# Altium schematic symbol library Schlib.SchLib: 629 symbols (part 9 of 21)
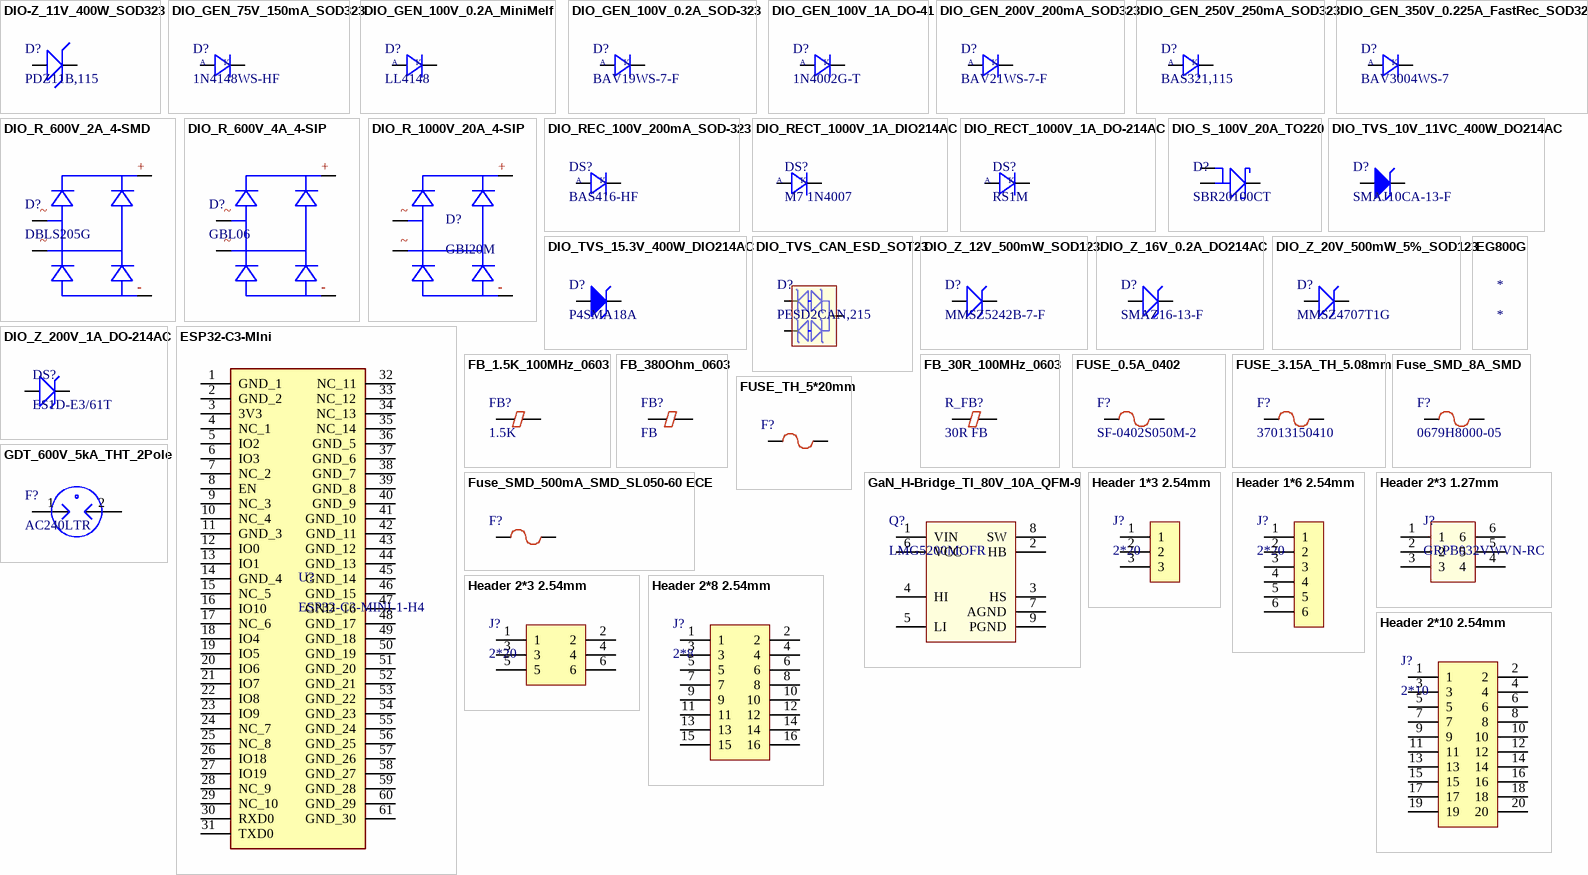
[diagram p26: symbols DIO-Z_11V_400W_SOD323 to Header 2*10 2.54mm]

## DIO_Z_16V_0.2A_DO214AC
designator D?, comment SMAZ16-13-F
Zener Diode, 16V V(Z), 5%, 1W, Silicon, Unidirectional; Manufacturer: Diodes; Package Body Material: Plastic; Dynamic Impedance-Max: 15R; Number of Elements: 1; Time @ Peak Reflow Temperature-Max (s): 40s; Test Current: 25mA; Qualification Status: Not Qualified; Supplier: Digikey; Supplier Part Number: SMAZ16-FDICT-ND; Manufacturer Part Number: SMAZ16-13-F; RoHS: Yes; Category: Zener Diodes; Stock: 376717; Pricing: 1=0.33, 10=0.236, 100=0.119, 500=0.10546, 1000=0.08208, 2000=0.07346 (USD); Pins: 2; Diode Element Material: SILICON; Package Shape: Rectangular; Terminal Finish: Tin; Min Operating Temperature: -65°C; Max Operating Temperature: 150°C; JESD-609 Code: e3; Polarity: Unidirectional; Diode Type: ZENER; JESD-30 Code: R-PDSO-C2; Moisture Sensitivity Level: 1; Package Style: SMALL OUTLINEMeter; Peak Reflow Temperature (Cel): 260°C; Max Power Dissipation: 1W; Reference Voltage-Nom: 16V; Surface Mount: Yes; Technology: ZENER; Terminal Form: C BEND; Terminal Position: DUAL; Voltage Tol-Max: 5%; RoHS Compliant: Yes; Reach SVHC Compliant: No; ComponentLink1URL: https://datasheet.ciiva.com:443/pdfs/VipMasterIC/IC/DIOD/DIOD-S-A0002832796/DIOD-S-A0002832796-1.pdf?src-supplier=IHS+Markit; ComponentLink1Description: https://datasheet.ciiva.com:443/pdfs/VipMasterIC/IC/DIOD/DIOD-S-A0002832796/DIOD-S-A0002832796-1.pdf?src-supplier=IHS+Markit; ComponentLink2URL: https://datasheet.ciiva.com/893/ds18015-893446.pdf?src-supplier=Digikey; ComponentLink2Description: https://datasheet.ciiva.com/893/ds18015-893446.pdf?src-supplier=Digikey; ComponentLink3URL: https://datasheet.ciiva.com/893/ds18015-893447.pdf?src-supplier=Digikey; ComponentLink3Description: https://datasheet.ciiva.com/893/ds18015-893447.pdf?src-supplier=Digikey; ComponentLink4URL: https://datasheet.ciiva.com/893/ds18015-893448.pdf?src-supplier=Digikey; ComponentLink4Description: https://datasheet.ciiva.com/893/ds18015-893448.pdf?src-supplier=Digikey; ComponentLink5URL: https://datasheet.ciiva.com/8345/ds18015-8345848.pdf?src-supplier=Avnet; ComponentLink5Description: https://datasheet.ciiva.com/8345/ds18015-8345848.pdf?src-supplier=Avnet
footprint DIO214AC
pins: 1, 2

## DIO_Z_20V_500mW_5%_SOD123
designator D?, comment MMSZ4707T1G
Zener Diode, 20V V(Z), 5%, 0.5W, Silicon, Unidirectional; Manufacturer: ON Semiconductor; Package Body Material: Plastic; Number of Elements: 1; Max Power Dissipation: 500mW; Test Current: 50uA; Time @ Peak Reflow Temperature-Max (s): 40s; Qualification Status: Not Qualified; Supplier: Future Electronics; Supplier Part Number: 5013838; Manufacturer Part Number: MMSZ4707T1G; RoHS: Yes; Category: Zener Diodes; Stock: 18000; Pricing: 3000=0.0203, 9000=0.0196, 15000=0.0192, 60000=0.0184, 90000=0.0178 (USD); Pins: 2; Diode Element Material: SILICON; Package Shape: Rectangular; Terminal Finish: Tin; Min Operating Temperature: -55°C; Max Operating Temperature: 150°C; JESD-609 Code: e3; Polarity: Unidirectional; Diode Type: ZENER; JESD-30 Code: R-PDSO-G2; Moisture Sensitivity Level: 1; Package Style: SMALL OUTLINEMeter; Reference Voltage-Nom: 20V; Surface Mount: Yes; Technology: ZENER; Terminal Form: Gull Wing; Terminal Position: DUAL; Voltage Tol-Max: 5%; Peak Reflow Temperature (Cel): 260°C; Reach SVHC Compliant: Yes; RoHS Compliant: Yes; ComponentLink1URL: https://datasheet.ciiva.com:443/pdfs/VipMasterIC/IC/ONSM/ONSM-S-A0003096558/ONSM-S-A0004683002-1.pdf?src-supplier=IHS+Markit; ComponentLink1Description: https://datasheet.ciiva.com:443/pdfs/VipMasterIC/IC/ONSM/ONSM-S-A0003096558/ONSM-S-A0004683002-1.pdf?src-supplier=IHS+Markit; ComponentLink2URL: https://datasheet.ciiva.com/8348/mmsz4678t1-d-8348006.pdf?src-supplier=Avnet; ComponentLink2Description: https://datasheet.ciiva.com/8348/mmsz4678t1-d-8348006.pdf?src-supplier=Avnet; ComponentLink3URL: https://datasheet.ciiva.com/900/mmsz4678t1-d-900011.pdf?src-supplier=Digikey; ComponentLink3Description: https://datasheet.ciiva.com/900/mmsz4678t1-d-900011.pdf?src-supplier=Digikey; ComponentLink4URL: https://datasheet.ciiva.com/900/mmsz4678t1-d-900012.pdf?src-supplier=Digikey; ComponentLink4Description: https://datasheet.ciiva.com/900/mmsz4678t1-d-900012.pdf?src-supplier=Digikey; ComponentLink5URL: https://datasheet.ciiva.com/900/mmsz4678t1-d-900013.pdf?src-supplier=Digikey; ComponentLink5Description: https://datasheet.ciiva.com/900/mmsz4678t1-d-900013.pdf?src-supplier=Digikey; ComponentLink6URL: https://datasheet.ciiva.com/15224/getdatasheetpartid-53216-15224523.pdf?src-supplier=Verical; ComponentLink6Description: https://datasheet.ciiva.com/15224/getdatasheetpartid-53216-15224523.pdf?src-supplier=Verical; ComponentLink7URL: https://datasheet.ciiva.com/16380/mmsz4678t1-d-16380856.pdf?src-supplier=Future+Electronics; ComponentLink7Description: https://datasheet.ciiva.com/16380/mmsz4678t1-d-16380856.pdf?src-supplier=Future+Electronics
footprint SOD-123
pins: 1, 2

## DIO_Z_200V_1A_DO-214AC
designator DS?, comment ES1D-E3/61T
VR=200V IF=1A 4pF Trr=35ns; Manufacturer: Vishay Semiconductors; Supplier 1: Digi-Key; Manufacturer Part Number: ES1D-E3/61T; RoHS: Yes; Category: Rectifier Diodes; Stock 1: 57516; Pricing 1: 1=0.4, 10=0.281, 100=0.1418, 500=0.12564 (USD); ComponentLink1URL: https://datasheet.octopart.com/ES1D-E3-61T-Vishay-datasheet-140572119.pdf?src-supplier=Arrow.cn; ComponentLink1Description: https://datasheet.octopart.com/ES1D-E3-61T-Vishay-datasheet-140572119.pdf?src-supplier=Arrow.cn; Supplier Part Number 1: ES1D-E3/61TGICT-ND
footprint DIO214AC
pins: 1, 2

## EG800G
designator *

## ESP32-C3-MIni
designator U?, comment ESP32-C3-MINI-1-H4
footprint ESP32 - C3 - Mini
pins: 1 GND_1, 2 GND_2, 3 3V3, 4 NC_1, 5 IO2, 6 IO3, 7 NC_2, 8 EN, 9 NC_3, 10 NC_4, 11 GND_3, 12 IO0, 13 IO1, 14 GND_4, 15 NC_5, 16 IO10, 17 NC_6, 18 IO4, 19 IO5, 20 IO6, 21 IO7, 22 IO8, 23 IO9, 24 NC_7, 25 NC_8, 26 IO18, 27 IO19, 28 NC_9, 29 NC_10, 30 RXD0, 31 TXD0, 32 NC_11, 33 NC_12, 34 NC_13, 35 NC_14, 36 GND_5, 37 GND_6, 38 GND_7, 39 GND_8, 40 GND_9, 41 GND_10, 42 GND_11, 43 GND_12, 44 GND_13, 45 GND_14, 46 GND_15, 47 GND_16, 48 GND_17, 49 GND_18, 50 GND_19, 51 GND_20, 52 GND_21, 53 GND_22, 54 GND_23, 55 GND_24, 56 GND_25, 57 GND_26, 58 GND_27, 59 GND_28, 60 GND_29, 61 GND_30

## FB_1.5K_100MHz_0603
designator FB?, comment 1.5K
Ferrite Chip, 1 Function(s), 0.3A, 2 Pin(s); Manufacturer: TDK; Manufacturer Part Number: MMZ1608Y152BTA00; DC Resistance-Max: 600mR; Channels: 1; Output Impedance: 1.5kR; Current Rating: 300mA; Clock Frequency: 400MHz; Min Frequency: 80MHz; Supplier: Avnet; Supplier Part Number: MMZ1608Y152BTA00; RoHS: Yes; Category: Ferrite Beads and Chips; Stock: 340000; Pricing: 4000=0.02136, 8000=0.02088, 16000=0.0204, 24000=0.01926, 32000=0.01879 (USD); Mounting Technology: Surface Mount; Terminal Finish: Copper; Material: Ferrite; Case Code: 0603; Min Operating Temperature: -55°C; Max Operating Temperature: 125°C; JESD-609 Code: e2; Filter Type: FERRITE CHIP; Packaging: Tape and Reel; Length: 1.6mm; Width: 0.8mm; Height: 0.8mm; Reach SVHC Compliant: Yes; RoHS Compliant: Yes; ComponentLink1URL: https://datasheet.ciiva.com:443/pdfs/VipMasterIC/IC/TDKC/TDKC-S-A0008032773/TDKC-S-A0008032773-1.pdf?src-supplier=IHS+Markit; ComponentLink1Description: https://datasheet.ciiva.com:443/pdfs/VipMasterIC/IC/TDKC/TDKC-S-A0008032773/TDKC-S-A0008032773-1.pdf?src-supplier=IHS+Markit; ComponentLink2URL: https://datasheet.ciiva.com/46634/beads-commercial-signal-mmz-en-46634743.pdf?src-supplier=Digikey; ComponentLink2Description: https://datasheet.ciiva.com/46634/beads-commercial-signal-mmz-en-46634743.pdf?src-supplier=Digikey; ComponentLink3URL: https://datasheet.ciiva.com/46634/beads-commercial-signal-mmz-en-46634746.pdf?src-supplier=Digikey; ComponentLink3Description: https://datasheet.ciiva.com/46634/beads-commercial-signal-mmz-en-46634746.pdf?src-supplier=Digikey; ComponentLink4URL: https://datasheet.ciiva.com/48682/beads-commercial-signal-mmz-en-48682543.pdf?src-supplier=Avnet; ComponentLink4Description: https://datasheet.ciiva.com/48682/beads-commercial-signal-mmz-en-48682543.pdf?src-supplier=Avnet
footprint RES_0603
pins: 1, 2

## FB_30R_100MHz_0603
designator R_FB?, comment 30R FB
Ferrite Beads Multi-Layer Power 30Ohm 10Ohm 100MHz 5A 0.01Ohm DCR 0603 T/R; Manufacturer: TDK; Manufacturer Part Number: MPZ1608S300ATAH0; Tolerance: 25%; Number of Lines: 1; Supplier 1: Digi-Key; RoHS: Yes; Category: Ferrite Beads and Chips; Stock 1: 499246; Pricing 1: 1=0.1, 10=0.07, 25=0.0636, 50=0.0574, 100=0.042, 250=0.03056, 500=0.02802, 1000=0.02421 (USD); Mount: Surface Mount; Case/Package: 0603; Case Code (Metric): 1608; Case Code (Imperial): 0603; Core Material: Ferrite; Weight: 7.1E-05oz; Min Operating Temperature: -55°C; Max Operating Temperature: 125°C; Packaging: Tape and Reel; Impedance: 30R; Termination: SMD/SMT; Test Frequency: 100MHz; Package Quantity: 4000; Max DC Current: 5A; Series: MPZ; Max Current Rating: 5A; Length: 1.6mm; Width: 0.8mm; Height: 0.6mm; Depth: 0.8mm; RoHS Compliant: Yes; Reach SVHC Compliant: No; Lead Free: Lead Free; ComponentLink1URL: https://datasheet.ciiva.com/46381/1795297-46381672.pdf?src-supplier=Element14; ComponentLink1Description: https://datasheet.ciiva.com/46381/1795297-46381672.pdf?src-supplier=Element14; ComponentLink2URL: https://datasheet.ciiva.com/46634/beads-commercial-power-mpz-en-46634469.pdf?src-supplier=Digi-Key; ComponentLink2Description: https://datasheet.ciiva.com/46634/beads-commercial-power-mpz-en-46634469.pdf?src-supplier=Digi-Key; ComponentLink3URL: https://datasheet.ciiva.com/46634/beads-commercial-power-mpz-en-46634463.pdf?src-supplier=Digi-Key; ComponentLink3Description: https://datasheet.ciiva.com/46634/beads-commercial-power-mpz-en-46634463.pdf?src-supplier=Digi-Key; Supplier Part Number 1: 445-MPZ1608S300ATAH0CT-ND
footprint RES_0603
pins: 1, 2

## FB_380Ohm_0603
designator FB?, comment FB
Ferrite Chip, 1 Function(s), 0.55A, 2 Pin(s); Manufacturer: Murata; Manufacturer Part Number: BLM18DN381SN1D; Supplier: Mouser; Supplier Part Number: 81-BLM18DN381SN1D; RoHS: Yes; Category: Ferrite Beads and Chips; Stock: 63; Pricing: 1=0.27, 10=0.146, 50=0.146, 100=0.128, 1000=0.077, 10000=0.065 (USD); ComponentLink1URL: https://datasheet.ciiva.com:443/pdfs/VipMasterIC/IC/MURE/MURE-S-A0008871331/MURE-S-A0008871262-1.pdf?src-supplier=IHS+Markit; ComponentLink1Description: https://datasheet.ciiva.com:443/pdfs/VipMasterIC/IC/MURE/MURE-S-A0008871331/MURE-S-A0008871262-1.pdf?src-supplier=IHS+Markit
footprint RES_0603
pins: 1, 2

## FUSE_0.5A_0402
designator F?, comment SF-0402S050M-2
Electric Fuse, Slow Blow, 0.5A, 24VDC, 35A (IR), Surface Mount; Manufacturer: Bourns; Supplier: Digikey; Supplier Part Number: SF-0402S050M-2CT-ND; Manufacturer Part Number: SF-0402S050M-2; RoHS: Yes; Category: Fuses; Stock: 4691; Pricing: 1=1.01, 5=0.84, 10=0.774, 50=0.6424, 100=0.5927, 250=0.53276, 500=0.4913, 1000=0.45293, 5000=0.37424 (USD); ComponentLink1URL: https://datasheet.ciiva.com:443/pdfs/VipMasterIC/IC/BOUR/BOUR-S-A0007718316/BOUR-S-A0007718316-1.pdf?src-supplier=IHS+Markit; ComponentLink1Description: https://datasheet.ciiva.com:443/pdfs/VipMasterIC/IC/BOUR/BOUR-S-A0007718316/BOUR-S-A0007718316-1.pdf?src-supplier=IHS+Markit; ComponentLink2URL: https://www.bourns.com/docs/Product-Datasheets/SF-0402SxxxM.pdf?src-supplier=Digikey; ComponentLink2Description: https://www.bourns.com/docs/Product-Datasheets/SF-0402SxxxM.pdf?src-supplier=Digikey
footprint RES_0402
pins: 1, 2

## FUSE_3.15A_TH_5.08mm
designator F?, comment 37013150410
Electric Fuse, Fast Blow, 3.15A, 250VAC, 35A (IR), Through Hole, TR5; Manufacturer: Littelfuse Wickmann; Joule-integral-Nom: 3.1J; Voltage Rating: 250V; Body Height: 8mm; Body Length or Diameter: 8.5mm; Reference Standard: UL; Supplier: Farnell; Supplier Part Number: 1716619; Manufacturer Part Number: 37013150410; RoHS: Yes; Category: Fuses; Stock: 884; Pricing: 1=0.924, 10=0.71, 25=0.65, 50=0.589, 100=0.544, 500=0.449, 1000=0.415 (EUR); Mounting Technology: Through Hole; Terminal Finish: Tin; Min Operating Temperature: -40°C; Max Operating Temperature: 85°C; JESD-609 Code: e3; Blow Characteristic: FAST; Circuit Protection Type: Electric Fuse; Fuse Size: TR5; Packaging: Bulk; Rated Breaking Capacity: 35A; Current Rating: 3.15A; Voltage Rating (AC): 250V; Termination: Pin Wire; Reach SVHC Compliant: Yes; RoHS Compliant: Yes; ComponentLink1URL: https://datasheet.ciiva.com:443/pdfs/VipMasterIC/IC/LFSI/LFSI-S-A0004921183/LFSI-S-A0007103660-1.pdf?src-supplier=IHS+Markit; ComponentLink1Description: https://datasheet.ciiva.com:443/pdfs/VipMasterIC/IC/LFSI/LFSI-S-A0004921183/LFSI-S-A0007103660-1.pdf?src-supplier=IHS+Markit; ComponentLink2URL: https://datasheet.ciiva.com/19467/1713387-19467274.pdf?src-supplier=Jameco; ComponentLink2Description: https://datasheet.ciiva.com/19467/1713387-19467274.pdf?src-supplier=Jameco; ComponentLink3URL: https://datasheet.ciiva.com/14153/370-series-eng-tds-14153967.pdf?src-supplier=Distrelec; ComponentLink3Description: https://datasheet.ciiva.com/14153/370-series-eng-tds-14153967.pdf?src-supplier=Distrelec; ComponentLink4URL: https://datasheet.ciiva.com/299/littelfuse-fuse-370-datasheet-pdf-299954.pdf?src-supplier=Digikey; ComponentLink4Description: https://datasheet.ciiva.com/299/littelfuse-fuse-370-datasheet-pdf-299954.pdf?src-supplier=Digikey; ComponentLink5URL: https://datasheet.ciiva.com/15186/getdatasheetpartid-72358-15186965.pdf?src-supplier=Verical; ComponentLink5Description: https://datasheet.ciiva.com/15186/getdatasheetpartid-72358-15186965.pdf?src-supplier=Verical
footprint FUSE_TH_5.08mm_H_8.5mm*8mm
pins: 1, 2

## Fuse_SMD_8A_SMD
designator F?, comment 0679H8000-05
Electric Fuse, Very Fast Blow, 8A, 350VAC, 60VDC, 50A (IR), Surface Mount, 2410; Manufacturer: Bel; Fuse Size: 2410; Rated Breaking Capacity: 100A; Voltage Rating: 60V; Trip Time or Delay: 14400s; Body Breadth: 2.54mm; Body Length or Diameter: 6.1mm; Reference Standard: UL; Supplier: Digikey; Supplier Part Number: 5923-0679H8000-05CT-ND; Manufacturer Part Number: 0679H8000-05; RoHS: Yes; Category: Fuses; Stock: 17669; Pricing: 1=0.28, 5=0.23, 10=0.213, 50=0.1772, 100=0.1639, 250=0.14764, 500=0.13642, 1000=0.126 (USD); Terminal Finish: Silver; Min Operating Temperature: -55°C; Max Operating Temperature: 125°C; JESD-609 Code: e4; Blow Characteristic: VERY FAST; Circuit Protection Type: Electric Fuse; Packaging: Tape and Reel; Current Rating: 8A; Body Height: 2.54mm; Reach SVHC Compliant: No; RoHS Compliant: Yes; ComponentLink1URL: https://datasheet.ciiva.com:443/pdfs/VipMasterIC/IC/BELF/BELF-S-A0002918427/BELF-S-A0002918427-1.pdf?src-supplier=IHS+Markit; ComponentLink1Description: https://datasheet.ciiva.com:443/pdfs/VipMasterIC/IC/BELF/BELF-S-A0002918427/BELF-S-A0002918427-1.pdf?src-supplier=IHS+Markit; ComponentLink2URL: https://www.belfuse.com/resources/CircuitProtection/datasheets/0679H%20Jan%202017.pdf?src-supplier=Digikey; ComponentLink2Description: https://www.belfuse.com/resources/CircuitProtection/datasheets/0679H%20Jan%202017.pdf?src-supplier=Digikey; ComponentLink3URL: https://datasheet.octopart.com/0679H8000-05-Bel-Fuse-datasheet-154833960.pdf?src-supplier=Master+Electronics; ComponentLink3Description: https://datasheet.octopart.com/0679H8000-05-Bel-Fuse-datasheet-154833960.pdf?src-supplier=Master+Electronics
footprint FUSE_6.1*2.54*2.79 (0.240" L x 0.100" W x 0.110" H (6.10mm x 2.54mm x 2.79mm))
pins: 1, 2

## Fuse_SMD_500mA_SMD_SL050-60 ECE
designator F?  (value not drawn)
Fuse: PTC polymer; 500mA; 2920
footprint SL050
pins: 1, 2

## FUSE_TH_5*20mm
designator F?
footprint LIttlefuse_01110501Z_TH_5*20mm Holder
pins: 1, 2

## GaN_H-Bridge_TI_80V_10A_QFM-9
designator Q?, comment LMG5200MOFR
Analog Circuit, 1 Func, 1 Channel; Manufacturer: Texas Instruments; Channels: 1; Max Supply Voltage: 5.25V; Min Supply Voltage: 4.75V; Nominal Supply Voltage: 5V; Supplier: Mouser; Supplier Part Number: 595-LMG5200MOFR; Manufacturer Part Number: LMG5200MOFR; RoHS: Yes; Category: Integrated Circuits (ICs); Stock: 2312; Pricing: 1=12.66, 10=9.95, 50=9.28, 100=8.53, 1000=7.68, 10000=7.22 (USD); Case/Package: BCC; Pins: 9; Package Shape: Rectangular; Min Operating Temperature: -40°C; Max Operating Temperature: 125°C; Throw Configuration: ANALOG CIRCUIT; Moisture Sensitivity Level: 3; Package Style: CHIP CARRIERMeter; Peak Reflow Temperature (Cel): 260°C; Surface Mount: Yes; Terminal Form: BUTT; Terminal Position: BOTTOM; Length: 8mm; Width: 6mm; Height - Seated (Max): 2mm; Temperature Grade: AUTOMOTIVE; Reach SVHC Compliant: Yes; RoHS Compliant: Yes; ComponentLink1URL: https://www.ti.com:443/lit/ds/symlink/lmg5200.pdf?src-supplier=IHS+Markit; ComponentLink1Description: https://www.ti.com:443/lit/ds/symlink/lmg5200.pdf?src-supplier=IHS+Markit; ComponentLink2URL: http://www.ti.com/lit/pdf/slyb194?src-supplier=Digikey; ComponentLink2Description: http://www.ti.com/lit/pdf/slyb194?src-supplier=Digikey; ComponentLink3URL: http://www.ti.com/lit/ds/symlink/lmg5200.pdf?src-supplier=Digikey; ComponentLink3Description: http://www.ti.com/lit/ds/symlink/lmg5200.pdf?src-supplier=Digikey; ComponentLink4URL: http://www.ti.com/general/docs/suppproductinfo.tsp?distId=10&amp;gotoUrl=http%3A%2F%2Fwww.ti.com%2Flit%2Fgpn%2Flmg5200&src-supplier=Digikey; ComponentLink4Description: http://www.ti.com/general/docs/suppproductinfo.tsp?distId=10&amp;gotoUrl=http%3A%2F%2Fwww.ti.com%2Flit%2Fgpn%2Flmg5200&src-supplier=Digikey
footprint LMG5200 - QFM9 (LMG5200 - QFM9 GaN 6.00mm X 8.00 mm)
pins: 1 VIN, 2 HB, 3 HS, 4 HI, 5 LI, 6 VCC, 7 AGND, 8 SW, 9 PGND

## GDT_600V_5kA_THT_2Pole
designator F?, comment AC240LTR
Surge Protection Circuit, CDSS2; Manufacturer: Littelfuse; Package Body Material: Metal; Channels: 1; Surface Mount: No; Time @ Peak Reflow Temperature-Max (s): 30s; Qualification Status: Not Qualified; Supplier: Rs; Supplier Part Number: 7606703; Manufacturer Part Number: AC240LTR; RoHS: Yes; Category: Circuit Protection; Stock: 105; Pricing: 5=2.972, 50=2.796, 100=2.572, 250=2.408 (EUR); Pins: 2; Package Shape: Round; Min Operating Temperature: -40°C; Max Operating Temperature: 90°C; Package Style: SPECIAL SHAPEMeter; Peak Reflow Temperature (Cel): 260°C; Telecom IC Type: SURGE PROTECTION CIRCUIT; Terminal Form: Wire; Terminal Position: DUAL; Temperature Grade: INDUSTRIAL; Reach SVHC Compliant: Yes; RoHS Compliant: Yes; ComponentLink1URL: https://datasheet.ciiva.com:443/pdfs/VipMasterIC/IC/LFSI/LFSI-S-A0004250961/LFSI-S-A0004250961-1.pdf?src-supplier=IHS+Markit; ComponentLink1Description: https://datasheet.ciiva.com:443/pdfs/VipMasterIC/IC/LFSI/LFSI-S-A0004250961/LFSI-S-A0004250961-1.pdf?src-supplier=IHS+Markit; ComponentLink2URL: https://datasheet.ciiva.com/14184/ac-cg3-series-eng-tds-14184336.pdf?src-supplier=Distrelec; ComponentLink2Description: https://datasheet.ciiva.com/14184/ac-cg3-series-eng-tds-14184336.pdf?src-supplier=Distrelec; ComponentLink3URL: https://datasheet.ciiva.com/25606/0900766b81123301-25606537.pdf?src-supplier=Rs; ComponentLink3Description: https://datasheet.ciiva.com/25606/0900766b81123301-25606537.pdf?src-supplier=Rs; ComponentLink4URL: https://datasheet.ciiva.com/323/littelfuse-gdt-ac-cg3-series-323282.pdf?src-supplier=Digikey; ComponentLink4Description: https://datasheet.ciiva.com/323/littelfuse-gdt-ac-cg3-series-323282.pdf?src-supplier=Digikey
footprint LittleFuse_AC240LTR
pins: 1, 2

## Header 1*3 2.54mm
designator J?, comment 2*20  (net tie, no BOM)
footprint Header 1*3
pins: 1, 2, 3

## Header 1*6 2.54mm
designator J?, comment 2*20  (net tie, no BOM)
footprint Header 1*6
pins: 1, 2, 3, 4, 5, 6

## Header 2*3 1.27mm
designator J?, comment GRPB032VWVN-RC
Board Connector, 6 Contact(s), 2 Row(s), Male, Straight, 0.05 inch Pitch, Solder Terminal; Manufacturer: Sullins; Manufacturer Series: GRP; Contact Pattern: RECTANGULAR; Contact Style: SQ PIN-SKT; Number Of Connectors: 1; Number Of PCB Rows: 2; Rated Current (Signal): 1A; Number of Contacts: 6; Body Breadth: 0.134inch; Body Depth: 0.039inch; Body Length: 0.15inch; PCB Contact Row Spacing: 1.27mm; Reference Standard: UL; Reliability: COMMERCIAL; Supplier: Digikey; Supplier Part Number: S9015E-03-ND; Manufacturer Part Number: GRPB032VWVN-RC; RoHS: Yes; Category: Connectors; Stock: 31118; Pricing: 1=0.57, 10=0.437, 100=0.3344, 500=0.27948, 1000=0.25933, 5000=0.21949, 10000=0.2158 (USD); Mounting Technology: Board; Contact Material: Brass; Contact Finish - Mating: AU; Insulation Material: Nylon; Min Operating Temperature: -40°C; Max Operating Temperature: 105°C; Connector Type: BOARD CONNECTOR; Contact Gender: Male; Mounting Style: STRAIGHT; Number of Rows Loaded: 2; PCB Contact Pattern: RECTANGULAR; Termination: Solder; Mating Contact Pitch: 0.05inch; Mating Contact Row Spacing: 0.05inch; Terminal Length: 0.091inch; Terminal Pitch: 1.27mm; Reach SVHC Compliant: Yes; RoHS Compliant: Yes; ComponentLink1URL: https://datasheet.ciiva.com:443/pdfs/VipMasterIC/IC/SUCS/SUCSS00161/SUCSS00161-1.pdf?src-supplier=IHS+Markit; ComponentLink1Description: https://datasheet.ciiva.com:443/pdfs/VipMasterIC/IC/SUCS/SUCSS00161/SUCSS00161-1.pdf?src-supplier=IHS+Markit; ComponentLink2URL: https://datasheet.ciiva.com/726/grpb-2vwvn-rc10954-c-726663.pdf?src-supplier=Digikey; ComponentLink2Description: https://datasheet.ciiva.com/726/grpb-2vwvn-rc10954-c-726663.pdf?src-supplier=Digikey
footprint Header 2*3 1.27mm
pins: 1, 2, 3, 4, 5, 6

## Header 2*3 2.54mm
designator J?, comment 2*20  (net tie, no BOM)
footprint Header 2*3
pins: 1, 2, 3, 4, 5, 6

## Header 2*8 2.54mm
designator J?, comment 2*8
footprint Header 2*8 - 16
pins: 1, 2, 3, 4, 5, 6, 7, 8, 9, 10, 11, 12, 13, 14, 15, 16

## Header 2*10 2.54mm
designator J?, comment 2*10  (net tie, no BOM)
footprint Header 2*10 - 20
pins: 1, 2, 3, 4, 5, 6, 7, 8, 9, 10, 11, 12, 13, 14, 15, 16, 17, 18, 19, 20

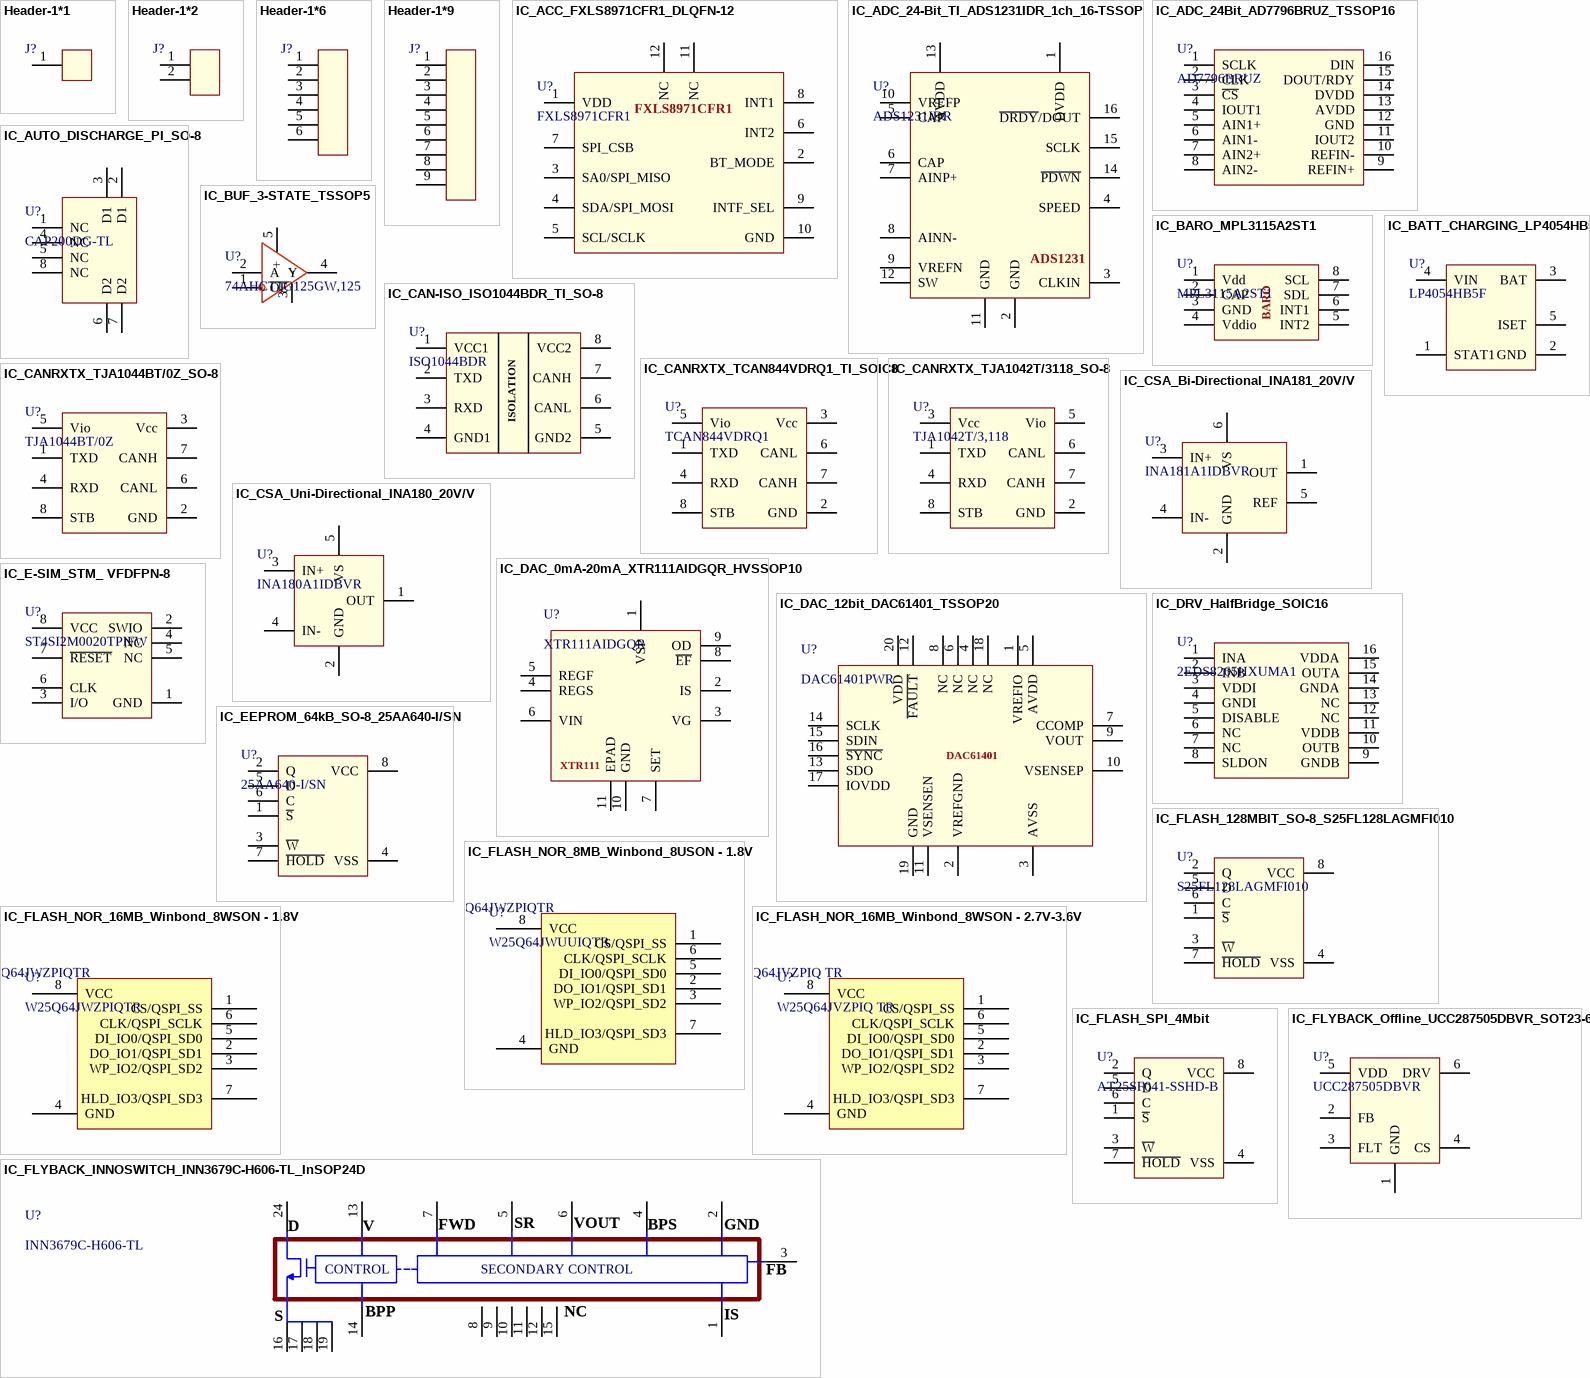
[diagram p6: symbols Header-1*1 to IC_FLYBACK_Offline_UCC287505DBVR_SOT23-6]

## Header-1*1
designator J?  (net tie, no BOM)
footprint Header 1*1 (Footprint not found)
pins: 1

## Header-1*2
designator J?  (net tie, no BOM)
footprint Header 1*2
pins: 1, 2

## Header-1*6
designator J?  (net tie, no BOM)
footprint Header 1*6 - duplicate
pins: 1, 2, 3, 4, 5, 6

## Header-1*9
designator J?  (net tie, no BOM)
footprint Header 1*9
pins: 1, 2, 3, 4, 5, 6, 7, 8, 9

## IC_ACC_FXLS8971CFR1_DLQFN-12
designator U?, comment FXLS8971CFR1
Accelerometer X, Y, Z Axis ±2g, 4g, 8g, 16g 1.6kHz 12-DLQFN (3x3); Manufacturer: NXP Semiconductors; Supplier: Avnet; Supplier Part Number: FXLS8971CFR1; Manufacturer Part Number: FXLS8971CFR1; RoHS: No; Category: LDO; Stock: 2500; Pricing: 1250=1.51782, 2500=1.51008, 5000=1.50234, 7500=1.49459, 10000=1.2696 (USD)
footprint DLQFN-12 (SOT2197-1(SC))
pins: 1 VDD, 2 BT_MODE, 3 SA0/SPI_MISO, 4 SDA/SPI_MOSI, 5 SCL/SCLK, 6 INT2, 7 SPI_CSB, 8 INT1, 9 INTF_SEL, 10 GND, 11 NC, 12 NC

## IC_ADC_24-Bit_TI_ADS1231IDR_1ch_16-TSSOP
designator U?, comment ADS1231IDR
ADC, Delta-Sigma, 24-Bit, 1 Func, 1 Channel, Serial Access, PDSO16; Manufacturer: Texas Instruments; Package Body Material: Plastic; Max Input Voltage (AC): 3.8V; Min Input Voltage (AC): 1.5V; Number of Analog In Channels: 1; Number of Bits: 24; Output Bit Code: 2''S COMPLEMENT BINARY; Package Equivalence Code: SOP16,.25; Power Supplies: 5V; Sample Rate (Hz): 80Hz; Qualification Status: Not Qualified; Supplier: Mouser; Supplier Part Number: 595-ADS1231IDR; Manufacturer Part Number: ADS1231IDR; RoHS: Yes; Category: Analog to Digital Converters (ADCs); Stock: 11675; Pricing: 1=5.81, 10=4.12, 50=4.12, 100=3.74, 1000=3.1, 10000=2.95 (USD); Case/Package: SOP; Pins: 16; Package Shape: Rectangular; Terminal Finish: Nickel; Min Operating Temperature: -40°C; Max Operating Temperature: 85°C; JESD-609 Code: e4; Output Format: Serial; Converter Type: DELTA-SIGMA; JESD-30 Code: R-PDSO-G16; Moisture Sensitivity Level: 2; Channels: 1; Package Style: SMALL OUTLINEMeter; Peak Reflow Temperature (Cel): 260°C; Nominal Supply Voltage: 5V; Surface Mount: Yes; Terminal Form: Gull Wing; Terminal Position: DUAL; Length: 9.9mm; Width: 3.9mm; Height - Seated (Max): 1.75mm; Terminal Pitch: 1.27mm; Temperature Grade: INDUSTRIAL; Reach SVHC Compliant: Yes; RoHS Compliant: Yes; ComponentLink1URL: https://www.ti.com:443/lit/ds/symlink/ads1231.pdf?src-supplier=IHS+Markit; ComponentLink1Description: https://www.ti.com:443/lit/ds/symlink/ads1231.pdf?src-supplier=IHS+Markit; ComponentLink2URL: https://datasheet.ciiva.com/1304/ads1231-1304621.pdf?src-supplier=Digikey; ComponentLink2Description: https://datasheet.ciiva.com/1304/ads1231-1304621.pdf?src-supplier=Digikey
footprint TSSOP16
pins: 1 DVDD, 2 GND, 3 CLKIN, 4 SPEED, 5 CAP, 6 CAP, 7 AINP+, 8 AINN-, 9 VREFN, 10 VREFP, 11 GND, 12 SW, 13 AVDD, 14 ~{PDWN}, 15 SCLK, 16 ~{DRDY}/DOUT
text: ADS1231

## IC_ADC_24Bit_AD7796BRUZ_TSSOP16
designator U?, comment AD7796BRUZ
ADC, Delta-Sigma, 16-Bit, 1 Func, 1 Channel, Serial Access, PDSO16; Manufacturer: Analog Devices; Package Body Material: Plastic; Max Input Voltage (AC): 4.15V; Min Input Voltage (AC): 300mV; Number of Analog In Channels: 1; Number of Bits: 16; Output Bit Code: OFFSET BINARY; Package Equivalence Code: TSSOP16,.25; Power Supplies: 3/5V; Nominal Supply Voltage: 3V; Time @ Peak Reflow Temperature-Max (s): 30s; Qualification Status: Not Qualified; Supplier: Mouser; Supplier Part Number: 584-AD7796BRUZ; Manufacturer Part Number: AD7796BRUZ; RoHS: Yes; Category: Analog to Digital Converters (ADCs); Stock: 5085; Pricing: 1=9.99, 10=6.79, 50=5.52, 100=4.71, 1000=4.7, 10000=4.57 (USD); Case/Package: TSSOP; Pins: 16; Package Shape: Rectangular; Terminal Finish: Tin; Min Operating Temperature: -40°C; Max Operating Temperature: 85°C; JESD-609 Code: e3; Output Format: Serial; Converter Type: DELTA-SIGMA; JESD-30 Code: R-PDSO-G16; Moisture Sensitivity Level: 1; Channels: 1; Package Style: SMALL OUTLINE, THIN PROFILE, SHRINK PITCHMeter; Peak Reflow Temperature (Cel): 260°C; Surface Mount: Yes; Terminal Form: Gull Wing; Terminal Position: DUAL; Length: 5mm; Width: 4.4mm; Height - Seated (Max): 1.2mm; Terminal Pitch: 0.65mm; Temperature Grade: INDUSTRIAL; Reach SVHC Compliant: Yes; RoHS Compliant: Yes; ComponentLink1URL: https://datasheet.ciiva.com:443/pdfs/VipMasterIC/IC/ANDI/ANDI-S-A0001791146/ANDI-S-A0001791146-1.pdf?src-supplier=IHS+Markit; ComponentLink1Description: https://datasheet.ciiva.com:443/pdfs/VipMasterIC/IC/ANDI/ANDI-S-A0001791146/ANDI-S-A0001791146-1.pdf?src-supplier=IHS+Markit; ComponentLink2URL: https://datasheet.ciiva.com/16326/ad7796-7797-278728-16326192.pdf?src-supplier=Mouser; ComponentLink2Description: https://datasheet.ciiva.com/16326/ad7796-7797-278728-16326192.pdf?src-supplier=Mouser; ComponentLink3URL: https://datasheet.ciiva.com/8196/ad7796-7797-8196287.pdf?src-supplier=Avnet; ComponentLink3Description: https://datasheet.ciiva.com/8196/ad7796-7797-8196287.pdf?src-supplier=Avnet; ComponentLink4URL: https://datasheet.ciiva.com/1702/290485-1702421.pdf?src-supplier=Element14; ComponentLink4Description: https://datasheet.ciiva.com/1702/290485-1702421.pdf?src-supplier=Element14; ComponentLink5URL: https://datasheet.ciiva.com/15147/getdatasheetpartid-64136-15147338.pdf?src-supplier=Verical; ComponentLink5Description: https://datasheet.ciiva.com/15147/getdatasheetpartid-64136-15147338.pdf?src-supplier=Verical
footprint TSSOP16
pins: 1 SCLK, 2 CLK, 3 ~{CS}, 4 IOUT1, 5 AIN1+, 6 AIN1-, 7 AIN2+, 8 AIN2-, 9 REFIN+, 10 REFIN-, 11 IOUT2, 12 GND, 13 AVDD, 14 DVDD, 15 DOUT/RDY, 16 DIN

## IC_AUTO_DISCHARGE_PI_SO-8
designator U?, comment CAP200DG-TL
Analog Circuit, 1 Func, 1 Channel, PDSO8; Manufacturer: Power Integrations; Supplier: Farnell; Supplier Part Number: 3126208; Manufacturer Part Number: CAP200DG-TL; RoHS: Yes; Category: Integrated Circuits (ICs); Stock: 2005; Pricing: 1=0.382, 10=0.348, 100=0.314, 500=0.291, 1000=0.267, 2500=0.263, 5000=0.255 (EUR); Throw Configuration: ANALOG CIRCUIT; Reach SVHC Compliant: Yes; RoHS Compliant: Yes; ComponentLink1URL: https://datasheet.ciiva.com:443/pdfs/VipMasterIC/IC/POIN/POIN-S-A0007073731/POIN-S-A0007073731-1.pdf?src-supplier=IHS+Markit; ComponentLink1Description: https://datasheet.ciiva.com:443/pdfs/VipMasterIC/IC/POIN/POIN-S-A0007073731/POIN-S-A0007073731-1.pdf?src-supplier=IHS+Markit; ComponentLink2URL: http://www.mouser.com/ds/2/328/capzero-2_family_datasheet_0-587730.pdf?src-supplier=Mouser; ComponentLink2Description: http://www.mouser.com/ds/2/328/capzero-2_family_datasheet_0-587730.pdf?src-supplier=Mouser; ComponentLink3URL: https://ac-dc.power.com/sites/default/files/product-docs/capzero-2_family_datasheet_0.pdf?src-supplier=Digikey; ComponentLink3Description: https://ac-dc.power.com/sites/default/files/product-docs/capzero-2_family_datasheet_0.pdf?src-supplier=Digikey; ComponentLink4URL: https://datasheet.octopart.com/CAP200DG-TL-Power-Integrations-datasheet-78760813.pdf?src-supplier=SHENGYU+ELECTRONICS; ComponentLink4Description: https://datasheet.octopart.com/CAP200DG-TL-Power-Integrations-datasheet-78760813.pdf?src-supplier=SHENGYU+ELECTRONICS
footprint SO-8 (1.27mm pitch)
pins: 1 NC, 2 D1, 3 D1, 4 NC, 5 NC, 6 D2, 7 D2, 8 NC

## IC_BARO_MPL3115A2ST1
designator U?, comment MPL3115A2ST1
Manufacturer: NXP Semiconductors; Supplier: Digikey; Supplier Part Number: 568-MPL3115A2ST1CT-ND; Manufacturer Part Number: MPL3115A2ST1; RoHS: No; Category: LDO; Stock: 571; Pricing: 1=6.31, 5=5.682, 10=5.448, 25=5.1692, 50=4.9782, 100=4.8033, 500=4.451 (USD)
footprint LGA8
pins: 1 Vdd, 2 CAP, 3 GND, 4 Vddio, 5 INT2, 6 INT1, 7 SDL, 8 SCL
text: BARO

## IC_BATT_CHARGING_LP4054HB5F
designator U?, comment LP4054HB5F
SOT-23-5 Battery Management ROHS; Manufacturer Part Number: LP4054HB5F
footprint SOT23-5
pins: 1 STAT1, 2 GND, 3 BAT, 4 VIN, 5 ISET

## IC_BUF_3-STATE_TSSOP5
designator U?, comment 74AHCT1G125GW,125
Bus Driver, AHCT/VHCT/VT Series, 1-Func, 1-Bit, True Output, CMOS, PDSO5; Manufacturer: Nexperia; Package Body Material: Plastic; Number of Bits: 1; Number of Ports: 2; Output Characteristics: 3-STATE; Propagation Delay (tpd): 9.5ns; Max Supply Voltage: 5.5V; Min Supply Voltage: 4.5V; Nominal Supply Voltage: 5V; Time @ Peak Reflow Temperature-Max (s): 30s; Qualification Status: Not Qualified; Supplier: Future Electronics; Supplier Part Number: 5162151; Manufacturer Part Number: 74AHCT1G125GW,125; RoHS: Yes; Category: Logic Gates; Stock: 123000; Pricing: 3000=0.0274, 9000=0.0267, 15000=0.0264, 30000=0.026, 60000=0.0253 (USD); Case/Package: TSSOP; Pins: 5; Package Shape: Rectangular; Terminal Finish: Tin; Min Operating Temperature: -40°C; Max Operating Temperature: 125°C; JESD-609 Code: e3; Output Polarity: True; JESD-30 Code: R-PDSO-G5; Logic Type: BUS DRIVER; Moisture Sensitivity Level: 1; Channels: 1; Package Style: SMALL OUTLINE, THIN PROFILE, SHRINK PITCHMeter; Peak Reflow Temperature (Cel): 260°C; Surface Mount: Yes; Technology: CMOS; Terminal Form: Gull Wing; Terminal Position: DUAL; Length: 2.05mm; Width: 1.25mm; Height - Seated (Max): 1.1mm; Terminal Pitch: 0.65mm; Temperature Grade: AUTOMOTIVE; Reach SVHC Compliant: Yes; RoHS Compliant: Yes; ComponentLink1URL: https://datasheet.ciiva.com:443/pdfs/VipMasterIC/IC/PHGL/PHGLS25584/PHGLS25584-1.pdf?src-supplier=IHS+Markit; ComponentLink1Description: https://datasheet.ciiva.com:443/pdfs/VipMasterIC/IC/PHGL/PHGLS25584/PHGLS25584-1.pdf?src-supplier=IHS+Markit; ComponentLink2URL: https://datasheet.octopart.com/74AHCT1G125GW%2C125-Nexperia-datasheet-87841683.pdf?src-supplier=Future+Electronics; ComponentLink2Description: https://datasheet.octopart.com/74AHCT1G125GW%2C125-Nexperia-datasheet-87841683.pdf?src-supplier=Future+Electronics; ComponentLink3URL: https://datasheet.octopart.com/74AHCT1G125GW%2C125-Nexperia-datasheet-159006934.pdf?src-supplier=SHENGYU+ELECTRONICS; ComponentLink3Description: https://datasheet.octopart.com/74AHCT1G125GW%2C125-Nexperia-datasheet-159006934.pdf?src-supplier=SHENGYU+ELECTRONICS; ComponentLink4URL: https://datasheet.octopart.com/74AHCT1G125GW%2C125-Nexperia-datasheet-13027598.pdf?src-supplier=TME; ComponentLink4Description: https://datasheet.octopart.com/74AHCT1G125GW%2C125-Nexperia-datasheet-13027598.pdf?src-supplier=TME
footprint SOT353-1 (TSSOP5)
pins: 1 ~{OE}, 2 A, 3 -, 4 Y, 5 +

## IC_CAN-ISO_ISO1044BDR_TI_SO-8
designator U?, comment ISO1044BDR
Interface Circuit, 1-Trnsvr, PDSO8; Manufacturer: Texas Instruments; Supplier: Mouser; Supplier Part Number: 595-ISO1044BDR; Manufacturer Part Number: ISO1044BDR; RoHS: Yes; Category: Interface ICs; Stock: 9520; Pricing: 1=3, 10=2.06, 50=2.06, 100=1.86, 1000=1.65, 10000=1.54 (USD)
footprint SO-8 (1.27mm pitch)
pins: 1 VCC1, 2 TXD, 3 RXD, 4 GND1, 5 GND2, 6 CANL, 7 CANH, 8 VCC2
text: ISOLATION

## IC_CANRXTX_TCAN844VDRQ1_TI_SOIC8
designator U?, comment TCAN844VDRQ1
Automotive CAN transceiver with standby for cost-optimized designs 8-SOIC -40 to 150; Manufacturer: Texas Instruments; Supplier: Mouser; Supplier Part Number: 595-TCAN844VDRQ1; Manufacturer Part Number: TCAN844VDRQ1; RoHS: No; Stock: 2485; Pricing: 1=1.38, 10=0.837, 50=0.837, 100=0.534, 1000=0.364, 10000=0.248 (USD)
footprint SO-8 (1.27mm pitch)
pins: 1 TXD, 2 GND, 3 Vcc, 4 RXD, 5 Vio, 6 CANL, 7 CANH, 8 STB

## IC_CANRXTX_TJA1042T/3118_SO-8
designator U?, comment TJA1042T/3,118
1/1 Transceiver Half CANbus 8-SO; Manufacturer: NXP Semiconductors; Package Body Material: Plastic; Data Rate: 1000Mbps; Channels: 1; Package Equivalence Code: SOP8,.25; Power Supplies: 5V; Max Supply Current: 70uA; Telecom IC Type: INTERFACE CIRCUIT; Qualification Status: Not Qualified; Supplier: Digikey; Supplier Part Number: 568-8678-6-ND; Manufacturer Part Number: TJA1042T/3,118; RoHS: Yes; Category: Interface ICs; Stock: 37083; Pricing: 1=1.78, 10=1.6, 25=1.5096, 100=1.2863, 250=1.20776, 500=1.05678, 1000=0.87562 (USD); Case/Package: SOP; Pins: 8; Package Shape: Rectangular; Terminal Finish: Nickel; Min Operating Temperature: -40°C; Max Operating Temperature: 125°C; JESD-609 Code: e4; JESD-30 Code: R-PDSO-G8; Moisture Sensitivity Level: 1; Number of Transceivers: 1; Package Style: SMALL OUTLINEMeter; Nominal Supply Voltage: 5V; Surface Mount: Yes; Terminal Form: Gull Wing; Terminal Position: DUAL; Length: 4.9mm; Width: 3.9mm; Height - Seated (Max): 1.75mm; Terminal Pitch: 1.27mm; Temperature Grade: AUTOMOTIVE; Reach SVHC Compliant: Yes; RoHS Compliant: Yes; ComponentLink1URL: https://datasheet.ciiva.com:443/pdfs/VipMasterIC/IC/PHGL/PHGLS24518/PHGLS24518-1.pdf?src-supplier=IHS+Markit; ComponentLink1Description: https://datasheet.ciiva.com:443/pdfs/VipMasterIC/IC/PHGL/PHGLS24518/PHGLS24518-1.pdf?src-supplier=IHS+Markit; ComponentLink2URL: https://datasheet.ciiva.com/4781/tja1042-120193-4781371.pdf?src-supplier=Mouser; ComponentLink2Description: https://datasheet.ciiva.com/4781/tja1042-120193-4781371.pdf?src-supplier=Mouser; ComponentLink3URL: https://datasheet.ciiva.com/15149/getdatasheetpartid-295270-15149994.pdf?src-supplier=Verical; ComponentLink3Description: https://datasheet.ciiva.com/15149/getdatasheetpartid-295270-15149994.pdf?src-supplier=Verical
footprint SO-8 (1.27mm pitch)
pins: 1 TXD, 2 GND, 3 Vcc, 4 RXD, 5 Vio, 6 CANL, 7 CANH, 8 STB

## IC_CANRXTX_TJA1044BT/0Z_SO-8
designator U?, comment TJA1044BT/0Z
Tja1044Bt/0 Rohs Compliant: Yes |Nxp TJA1044BT/0Z; Manufacturer: NXP Semiconductors; Supplier: Mouser; Supplier Part Number: 771-TJA1044BT/0Z; Manufacturer Part Number: TJA1044BT/0Z; RoHS: No; Category: Uncategorized; Stock: 4617; Pricing: 1=0.93, 10=0.829, 50=0.829, 100=0.646, 1000=0.439, 10000=0.359 (USD)
footprint SO-8 (1.27mm pitch)
pins: 1 TXD, 2 GND, 3 Vcc, 4 RXD, 5 Vio, 6 CANL, 7 CANH, 8 STB

## IC_CSA_Bi-Directional_INA181_20V/V
designator U?, comment INA181A1IDBVR
Operational Amplifier, 1 Func, 500uV Offset-Max, PDSO6; Manufacturer: Texas Instruments; Package Body Material: Plastic; Average Bias Current-Max (IIB): 75uA; Common-mode Reject Ratio-Nom: 100dB; Channels: 1; Slew Rate: 2V/µs; Supply Voltage Limit-Max: 5.5V; Nominal Supply Voltage: 5V; Unity Gain BW-Nom: 350kHz; Supplier: Mouser; Supplier Part Number: 595-INA181A1IDBVR; Manufacturer Part Number: INA181A1IDBVR; RoHS: Yes; Category: Amplifiers - Op Amps, Buffer, Instrumentation; Stock: 105007; Pricing: 1=0.48, 10=0.384, 50=0.384, 100=0.284, 1000=0.175, 10000=0.149 (USD); Case/Package: SOP; Pins: 6; Package Shape: Rectangular; Terminal Finish: Tin; Min Operating Temperature: -40°C; Max Operating Temperature: 125°C; JESD-609 Code: e3; Amplifier Type: OPERATIONAL AMPLIFIER; Input Offset Voltage-Max: 500uV; JESD-30 Code: R-PDSO-G6; Moisture Sensitivity Level: 1; Package Style: SMALL OUTLINEMeter; Peak Reflow Temperature (Cel): 260°C; Surface Mount: Yes; Terminal Form: Gull Wing; Terminal Position: DUAL; Temperature Grade: AUTOMOTIVE; Reach SVHC Compliant: Yes; RoHS Compliant: Yes; ComponentLink1URL: https://www.ti.com:443/lit/ds/symlink/ina181.pdf?src-supplier=IHS+Markit; ComponentLink1Description: https://www.ti.com:443/lit/ds/symlink/ina181.pdf?src-supplier=IHS+Markit; ComponentLink2URL: http://www.ti.com/lit/ds/symlink/ina181.pdf?src-supplier=Digikey; ComponentLink2Description: http://www.ti.com/lit/ds/symlink/ina181.pdf?src-supplier=Digikey
footprint SOT23-6
pins: 1 OUT, 2 GND, 3 IN+, 4 IN-, 5 REF, 6 VS

## IC_CSA_Uni-Directional_INA180_20V/V
designator U?, comment INA180A1IDBVR
Operational Amplifier, 1 Func, 500uV Offset-Max, PDSO5; Manufacturer: Texas Instruments; Package Body Material: Plastic; Common-mode Reject Ratio-Nom: 100dB; Channels: 1; Slew Rate: 2V/µs; Supply Voltage Limit-Max: 6V; Nominal Supply Voltage: 5V; Unity Gain BW-Nom: 350kHz; Supplier: Mouser; Supplier Part Number: 595-INA180A1IDBVR; Manufacturer Part Number: INA180A1IDBVR; RoHS: Yes; Category: Amplifiers - Op Amps, Buffer, Instrumentation; Stock: 11844; Pricing: 1=0.36, 10=0.213, 50=0.213, 100=0.164, 1000=0.147, 10000=0.123 (USD); Case/Package: LSSOP; Pins: 5; Package Shape: Rectangular; Terminal Finish: Tin; Min Operating Temperature: -40°C; Max Operating Temperature: 125°C; JESD-609 Code: e3; Amplifier Type: OPERATIONAL AMPLIFIER; Input Offset Voltage-Max: 500uV; JESD-30 Code: R-PDSO-G5; Moisture Sensitivity Level: 1; Package Style: SMALL OUTLINE, LOW PROFILE, SHRINK PITCHMeter; Peak Reflow Temperature (Cel): 260°C; Surface Mount: Yes; Terminal Form: Gull Wing; Terminal Position: DUAL; Length: 2.9mm; Width: 1.6mm; Height - Seated (Max): 1.45mm; Terminal Pitch: 0.95mm; Reach SVHC Compliant: Yes; RoHS Compliant: Yes; Temperature Grade: AUTOMOTIVE; ComponentLink1URL: https://www.ti.com:443/lit/ds/symlink/ina180.pdf?src-supplier=IHS+Markit; ComponentLink1Description: https://www.ti.com:443/lit/ds/symlink/ina180.pdf?src-supplier=IHS+Markit; ComponentLink2URL: http://www.ti.com/lit/ds/symlink/ina180.pdf?src-supplier=Digikey; ComponentLink2Description: http://www.ti.com/lit/ds/symlink/ina180.pdf?src-supplier=Digikey
footprint SOT23-5
pins: 1 OUT, 2 GND, 3 IN+, 4 IN-, 5 VS

## IC_DAC_0mA-20mA_XTR111AIDGQR_HVSSOP10
designator U?, comment XTR111AIDGQR
Analog Circuit, 1 Func, 1 Channel, BIPolar, PDSO10; Manufacturer: Texas Instruments; Package Body Material: Plastic; Channels: 1; Package Equivalence Code: TSSOP10,.19,20; Power Supplies: 24V; Supply Current-Max (Isup): 550uA; Max Supply Voltage: 44V; Min Supply Voltage: 7V; Qualification Status: Not Qualified; Supplier: Mouser; Supplier Part Number: 595-XTR111AIDGQR; Manufacturer Part Number: XTR111AIDGQR; RoHS: Yes; Category: Amplifiers - Op Amps, Buffer, Instrumentation; Stock: 8981; Pricing: 1=1.86, 10=1.38, 50=1.25, 100=1.12, 1000=0.978, 10000=0.901 (USD); Case/Package: HTSSOP; Pins: 10; Package Shape: Square; Terminal Finish: Nickel; Min Operating Temperature: -55°C; Max Operating Temperature: 125°C; JESD-609 Code: e4; Throw Configuration: ANALOG CIRCUIT; JESD-30 Code: S-PDSO-G10; Moisture Sensitivity Level: 2; Package Style: SMALL OUTLINE, HEAT SINK/SLUG, THIN PROFILE, SHRINK PITCHMeter; Peak Reflow Temperature (Cel): 260°C; Nominal Supply Voltage: 24V; Surface Mount: Yes; Technology: BIPOLAR; Terminal Form: Gull Wing; Terminal Position: DUAL; Length: 3mm; Width: 3mm; Height - Seated (Max): 1.1mm; Terminal Pitch: 0.5mm; Temperature Grade: MILITARY; Reach SVHC Compliant: Yes; RoHS Compliant: Yes; ComponentLink1URL: https://www.ti.com:443/lit/ds/symlink/xtr111.pdf?src-supplier=IHS+Markit; ComponentLink1Description: https://www.ti.com:443/lit/ds/symlink/xtr111.pdf?src-supplier=IHS+Markit; ComponentLink2URL: https://datasheet.ciiva.com/15135/getdatasheetpartid-456570-15135022.pdf?src-supplier=Verical; ComponentLink2Description: https://datasheet.ciiva.com/15135/getdatasheetpartid-456570-15135022.pdf?src-supplier=Verical; ComponentLink3URL: https://datasheet.ciiva.com/1782/xtr111-1782019.pdf?src-supplier=Digikey; ComponentLink3Description: https://datasheet.ciiva.com/1782/xtr111-1782019.pdf?src-supplier=Digikey
footprint HVSSOP10
pins: 1 VSP, 2 IS, 3 VG, 4 REGS, 5 REGF, 6 VIN, 7 SET, 8 ~{EF}, 9 OD, 10 GND, 11 EPAD
text: XTR111

## IC_DAC_12bit_DAC61401_TSSOP20
designator U?, comment DAC61401PWR
Single-channel 12-bit high-voltage-output DAC with precision internal reference 20-TSSOP -40 to 125; Manufacturer: Texas Instruments; Supplier: Mouser; Supplier Part Number: 595-DAC61401PWR; Manufacturer Part Number: DAC61401PWR; RoHS: No; Category: Integrated Circuits (ICs); Stock: 2955; Pricing: 1=9.05, 10=7.04, 50=6.54, 100=5.98, 1000=5.42, 10000=5.42 (USD)
footprint TSSOP20
pins: 1 VREFIO, 2 VREFGND, 3 AVSS, 4 NC, 5 AVDD, 6 NC, 7 CCOMP, 8 NC, 9 VOUT, 10 VSENSEP, 11 VSENSEN, 12 ~{FAULT}, 13 SDO, 14 SCLK, 15 SDIN, 16 ~{SYNC}, 17 IOVDD, 18 NC, 19 GND, 20 VDD
text: DAC61401

## IC_DRV_HalfBridge_SOIC16
designator U?, comment 2EDS8265HXUMA1
Half Bridge Based MOSFET Driver, PDSO16; Manufacturer: Infineon; Supplier: Digikey; Supplier Part Number: 2EDS8265HXUMA1TR-ND; Manufacturer Part Number: 2EDS8265HXUMA1; RoHS: Yes; Category: Gate Drivers; Interface IC Type: HALF BRIDGE BASED MOSFET DRIVER; Reach SVHC Compliant: Yes; RoHS Compliant: Yes; ComponentLink1URL: https://datasheet.ciiva.com:443/pdfs/VipMasterIC/IC/INFN/INFN-S-A0008993695/INFN-S-A0008993695-1.pdf?src-supplier=IHS+Markit; ComponentLink1Description: https://datasheet.ciiva.com:443/pdfs/VipMasterIC/IC/INFN/INFN-S-A0008993695/INFN-S-A0008993695-1.pdf?src-supplier=IHS+Markit
pins: 1 INA, 2 INB, 3 VDDI, 4 GNDI, 5 DISABLE, 6 NC, 7 NC, 8 SLDON, 9 GNDB, 10 OUTB, 11 VDDB, 12 NC, 13 NC, 14 GNDA, 15 OUTA, 16 VDDA

## IC_E-SIM_STM_ VFDFPN-8
designator U?, comment ST4SI2M0020TPIFW
RF System on a Chip - SoC GSMA eSIM system-on-chip for secure M2M industrial applications; Manufacturer: STMicroelectronics; Supplier: Mouser; Supplier Part Number: 511-ST4SI2M0020TPIFW; Manufacturer Part Number: ST4SI2M0020TPIFW; RoHS: No; Category: Integrated Circuits (ICs); Stock: 3934; Pricing: 1=5.25, 10=4.72, 50=4.46, 100=3.87, 1000=2.79, 10000=2.72 (USD)
footprint VFDFPN8
pins: 1 GND, 2 SWIO, 3 I/O, 4 NC, 5 NC, 6 CLK, 7 ~{RESET}, 8 VCC

## IC_EEPROM_64kB_SO-8_25AA640-I/SN
designator U?, comment 25AA640-I/SN
EEPROM, 8KX8, Serial, CMOS, PDSO8; Manufacturer: Microchip; Package Body Material: Plastic; Clock Frequency: 1MHz; Density: 65536b; Memory Width: 8; Channels: 1; Memory Size: 8192; Number of Words Code: 8K; Operating Mode: SYNCHRONOUS; Serial Bus Type: SPI; Max Supply Voltage: 5.5V; Min Supply Voltage: 1.8V; Nominal Supply Voltage: 2.5V; Time @ Peak Reflow Temperature-Max (s): 40s; Write Cycle Time-Max (tWC): 5ms; Data Retention Time-Min: 200; Endurance: 100000Cycles; Package Equivalence Code: SOP8,.25; Standby Current-Max: 1uA; Write Protection: HARDWARE/SOFTWARE; Qualification Status: Not Qualified; Supplier: Farnell; Supplier Part Number: 1331374; Manufacturer Part Number: 25AA640-I/SN; RoHS: Yes; Category: EEPROM; Stock: 5029; Pricing: 1=0.841, 25=0.822, 100=0.805, 250=0.787 (EUR); Case/Package: SOP; Pins: 8; Package Shape: Rectangular; Terminal Finish: Tin; Min Operating Temperature: -40°C; Max Operating Temperature: 85°C; JESD-609 Code: e3; Memory Format: EEPROM; JESD-30 Code: R-PDSO-G8; Moisture Sensitivity Level: 3; Organization: 8KX8; Package Style: SMALL OUTLINEMeter; Parallel/Serial: SERIAL; Peak Reflow Temperature (Cel): 260°C; Surface Mount: Yes; Technology: CMOS; Terminal Form: Gull Wing; Terminal Position: DUAL; Power Supplies: 2.5V; Max Supply Current: 1uA; Length: 4.9mm; Width: 3.9mm; Height - Seated (Max): 1.75mm; Terminal Pitch: 1.27mm; Temperature Grade: INDUSTRIAL; Reach SVHC Compliant: Yes; RoHS Compliant: Yes; ComponentLink1URL: https://datasheet.ciiva.com:443/pdfs/VipMasterIC/IC/MCHP/MCHPS02562/MCHPS02562-1.pdf?src-supplier=IHS+Markit; ComponentLink1Description: https://datasheet.ciiva.com:443/pdfs/VipMasterIC/IC/MCHP/MCHPS02562/MCHPS02562-1.pdf?src-supplier=IHS+Markit; ComponentLink2URL: https://datasheet.ciiva.com/16922/70045288-16922267.pdf?src-supplier=Allied+Electronics; ComponentLink2Description: https://datasheet.ciiva.com/16922/70045288-16922267.pdf?src-supplier=Allied+Electronics; ComponentLink3URL: https://datasheet.ciiva.com/1155/1688094-1155581.pdf?src-supplier=Element14; ComponentLink3Description: https://datasheet.ciiva.com/1155/1688094-1155581.pdf?src-supplier=Element14; ComponentLink4URL: https://datasheet.ciiva.com/3184/21223h-3184972.pdf?src-supplier=Avnet; ComponentLink4Description: https://datasheet.ciiva.com/3184/21223h-3184972.pdf?src-supplier=Avnet; ComponentLink5URL: https://datasheet.ciiva.com/15218/getdatasheetpartid-781145-15218725.pdf?src-supplier=Verical; ComponentLink5Description: https://datasheet.ciiva.com/15218/getdatasheetpartid-781145-15218725.pdf?src-supplier=Verical
footprint SO-8 (1.27mm pitch)
pins: 1 ~{S}, 2 Q, 3 ~{W}, 4 VSS, 5 D, 6 C, 7 ~{HOLD}, 8 VCC

## IC_FLASH_128MBIT_SO-8_S25FL128LAGMFI010
designator U?, comment S25FL128LAGMFI010
Flash, 32MX4, PDSO8; Manufacturer: Cypress; Package Body Material: Plastic; Alternate Memory Width: 2; Clock Frequency: 133MHz; Density: 134217728b; Memory Width: 4; Channels: 1; Memory Size: 33554432; Number of Words Code: 32M; Operating Mode: SYNCHRONOUS; Parallel/Serial: SERIAL; Programming Voltage: 3V; Max Supply Voltage: 3.6V; Min Supply Voltage: 2.7V; Supplier: Farnell; Supplier Part Number: 2771137; Manufacturer Part Number: S25FL128LAGMFI010; RoHS: Yes; Category: Flash; Stock: 689; Pricing: 1=2.42, 10=1.96, 25=1.92, 50=1.87, 100=1.83, 250=1.81, 500=1.78, 1000=1.55 (EUR); Case/Package: SOP; Pins: 8; Package Shape: Square; Min Operating Temperature: -40°C; Max Operating Temperature: 85°C; Memory Format: FLASH; JESD-30 Code: S-PDSO-G8; Organization: 32MX4; Package Style: SMALL OUTLINEMeter; Nominal Supply Voltage: 3V; Surface Mount: Yes; Technology: CMOS; Terminal Form: Gull Wing; Terminal Position: DUAL; Length: 5.28mm; Width: 5.28mm; Height - Seated (Max): 2.16mm; Terminal Pitch: 1.27mm; Reach SVHC Compliant: Yes; Temperature Grade: INDUSTRIAL; RoHS Compliant: Yes; ComponentLink1URL: https://datasheet.ciiva.com:443/pdfs/VipMasterIC/IC/CYPR/CYPR-S-A0006313919/CYPR-S-A0006313919-1.pdf?src-supplier=IHS+Markit; ComponentLink1Description: https://datasheet.ciiva.com:443/pdfs/VipMasterIC/IC/CYPR/CYPR-S-A0006313919/CYPR-S-A0006313919-1.pdf?src-supplier=IHS+Markit; ComponentLink2URL: http://www.farnell.com/datasheets/2309631.pdf?src-supplier=Farnell; ComponentLink2Description: http://www.farnell.com/datasheets/2309631.pdf?src-supplier=Farnell; ComponentLink3URL: http://www.farnell.com/datasheets/2309631.pdf?src-supplier=Arrow+Electronics; ComponentLink3Description: http://www.farnell.com/datasheets/2309631.pdf?src-supplier=Arrow+Electronics; ComponentLink4URL: http://www.farnell.com/datasheets/2309631.pdf?src-supplier=Element14; ComponentLink4Description: http://www.farnell.com/datasheets/2309631.pdf?src-supplier=Element14; ComponentLink5URL: http://www.cypress.com/file/316171/download?src-supplier=Digikey; ComponentLink5Description: http://www.cypress.com/file/316171/download?src-supplier=Digikey; ComponentLink6URL: http://www.farnell.com/datasheets/2309631.pdf?src-supplier=Verical; ComponentLink6Description: http://www.farnell.com/datasheets/2309631.pdf?src-supplier=Verical; ComponentLink7URL: http://www.farnell.com/datasheets/2309631.pdf?src-supplier=Newark; ComponentLink7Description: http://www.farnell.com/datasheets/2309631.pdf?src-supplier=Newark; ComponentLink8URL: http://www.farnell.com/datasheets/2309631.pdf?src-supplier=Mouser; ComponentLink8Description: http://www.farnell.com/datasheets/2309631.pdf?src-supplier=Mouser
footprint SO-8 (1.27mm pitch)
pins: 1 ~{S}, 2 Q, 3 ~{W}, 4 VSS, 5 D, 6 C, 7 ~{HOLD}, 8 VCC

## IC_FLASH_NOR_8MB_Winbond_8USON - 1.8V
designator U?, comment W25Q64JWUUIQTR
FLASH - NOR Memory IC 64Mbit SPI - Quad I/O, QPI, DTR 133 MHz 6 ns 8-USON (4x3); Manufacturer: Winbond; Supplier: Digikey; Supplier Part Number: 256-W25Q64JWUUIQTRCT-ND; Manufacturer Part Number: W25Q64JWUUIQTR; RoHS: No; Pricing: 1=1.27, 10=1.163, 25=1.1312, 50=1.1256, 100=1.0061, 250=1.0032, 500=0.98804, 1000=0.94609 (USD)
footprint USON-8 4mm*3mm
pins: 1 CS/QSPI_SS, 2 DO_IO1/QSPI_SD1, 3 WP_IO2/QSPI_SD2, 4 GND, 5 DI_IO0/QSPI_SD0, 6 CLK/QSPI_SCLK, 7 HLD_IO3/QSPI_SD3, 8 VCC
text: W25Q64JWZPIQTR

## IC_FLASH_NOR_16MB_Winbond_8WSON - 1.8V
designator U?, comment W25Q64JWZPIQTR
IC FLASH 64MBIT SPI/QUAD 8WSON; Manufacturer: Winbond; Supplier: Digikey; Supplier Part Number: 256-W25Q64JWZPIQTRCT-ND; Manufacturer Part Number: W25Q64JWZPIQTR; RoHS: No; Stock: 4853; Pricing: 1=1.34, 10=1.225, 25=1.192, 50=1.1858, 100=1.06, 250=1.05692, 500=1.04096, 1000=0.99677 (USD)
footprint WSON8 6*5mm WO Pad
pins: 1 CS/QSPI_SS, 2 DO_IO1/QSPI_SD1, 3 WP_IO2/QSPI_SD2, 4 GND, 5 DI_IO0/QSPI_SD0, 6 CLK/QSPI_SCLK, 7 HLD_IO3/QSPI_SD3, 8 VCC